# EAGLE library part 8-PIN_2MM-* (library RoboJackets-Connectors)
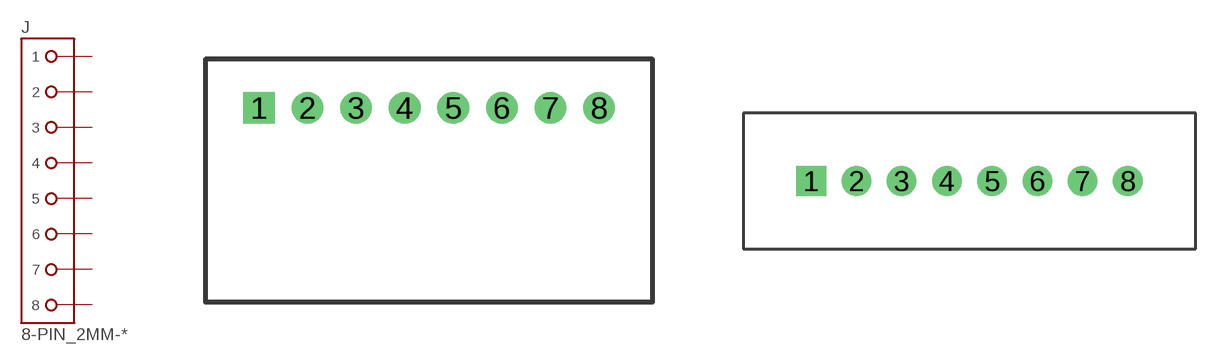
[diagram p3: symbol with the pads of 2MM-8-H; footprints 2MM-8-H, 2MM-8-V]

Designator prefix J

## 8-PIN_2MM-H (DIGIKEY: WM18937-ND; MPN: 0353630860)  [2MM-8-H]
1  1  pas
2  2  pas
3  3  pas
4  4  pas
5  5  pas
6  6  pas
7  7  pas
8  8  pas

## 8-PIN_2MM-V (PINS: 8; PIN_PITCH: 2.0 mm)  [2MM-8-V]
Pads as for 2MM-8-H

## Footprint 2MM-8-H (pad centres in mm)
drill 0.8 square: 1 -7,0
drill 0.8: 2 -5,0; 3 -3,0; 4 -1,0; 5 1,0; 6 3,0; 7 5,0; 8 7,0

## Footprint 2MM-8-V (pad centres in mm)
drill 0.8 square: 1 -6,0
drill 0.8: 2 -4,0; 3 -2,0; 4 0,0; 5 2,0; 6 4,0; 7 6,0; 8 8,0